# Altium footprint library DAQ1.PcbLib: 3 footprints
Each footprint in its own frame and in the unit in brackets; x right, y up, seen from the top. Pads: shape width x height; smd on the part's side, far side on the other; paste and mask are expansions set on the pad; w line width, h text height; cw(c..) or ccw(c..) is an arc to the next point about the centre after c.
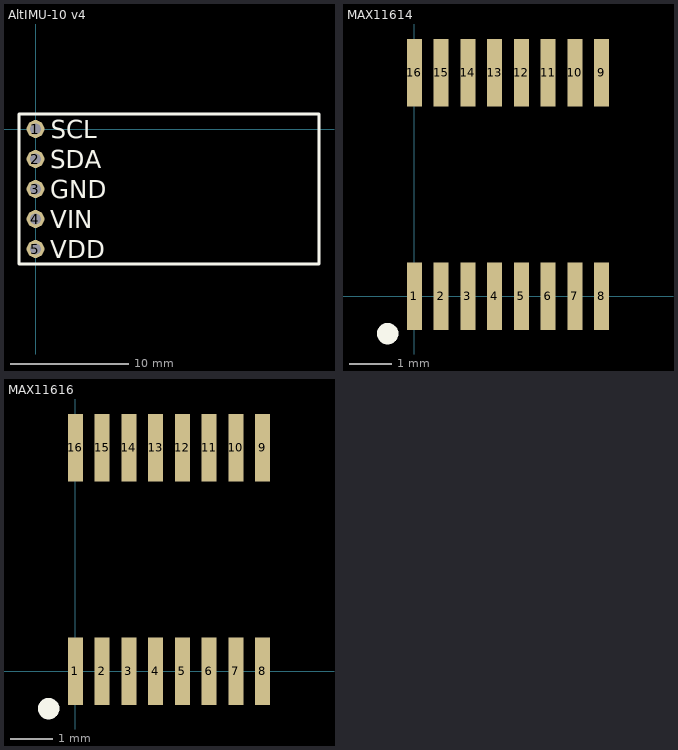
[diagram p0: the footprints below, top view; thin cyan lines are the x and y axes]

## AltIMU-10 v4 [mm] "AltIMU-10 v4 Gyro, Accelerometer, Compass, and Altimeter (L3GD20H, LSM303D, and LPS25H Carrier)"
pads (5):
  round 1.5 hole 0.9: 1(0,0) 2(0,-2.54) 3(0,-5.08) 4(0,-7.62) 5(0,-10.16)
Top Overlay:
  lines w0.254: -1.397,-11.43 -1.397,1.27 24.003,1.27 24.003,-11.43 -1.397,-11.43
  text "SCL" at 1.27,-0.762 h1.52
  text "SDA" at 1.27,-3.302 h1.52
  text "GND" at 1.27,-5.842 h1.52
  text "VIN" at 1.27,-8.382 h1.52
  text "VDD" at 1.27,-10.922 h1.52
3D body: height 16.51, standoff -25.4, extent 0,0 0,0
3D body "pololu.STEP": height 9.94, standoff -0.06, extent -1.27,-11.43 24.13,1.27

## MAX11614 [mm] "8 channel ADC to I2C converter"
pads (16):
  rect 0.36x1.6 smd: 1(0,0) 2(0.635,0) 3(1.27,0) 4(1.905,0) 5(2.54,0) 6(3.175,0) 7(3.81,0) 8(4.445,0) 9(4.445,5.31) 10(3.81,5.31) 11(3.175,5.31) 12(2.54,5.31) 13(1.905,5.31) 14(1.27,5.31) 15(0.635,5.31) 16(0,5.31)
Top Overlay:
  circle w0.254: c-0.635,-0.889 r0.127

## MAX11616 [mm] "12 channel ADC to I2C converter"
pads (16):
  rect 0.36x1.6 smd: 1(0,0) 2(0.635,0) 3(1.27,0) 4(1.905,0) 5(2.54,0) 6(3.175,0) 7(3.81,0) 8(4.445,0) 9(4.445,5.31) 10(3.81,5.31) 11(3.175,5.31) 12(2.54,5.31) 13(1.905,5.31) 14(1.27,5.31) 15(0.635,5.31) 16(0,5.31)
Top Overlay:
  circle w0.254: c-0.635,-0.889 r0.127